# Altium footprint library LM2596SX-ADJ.PcbLib: 1 footprints
Each footprint in its own frame and in the unit in brackets; x right, y up, seen from the top. Pads: shape width x height; smd on the part's side, far side on the other; paste and mask are expansions set on the pad; w line width, h text height; cw(c..) or ccw(c..) is an arc to the next point about the centre after c.
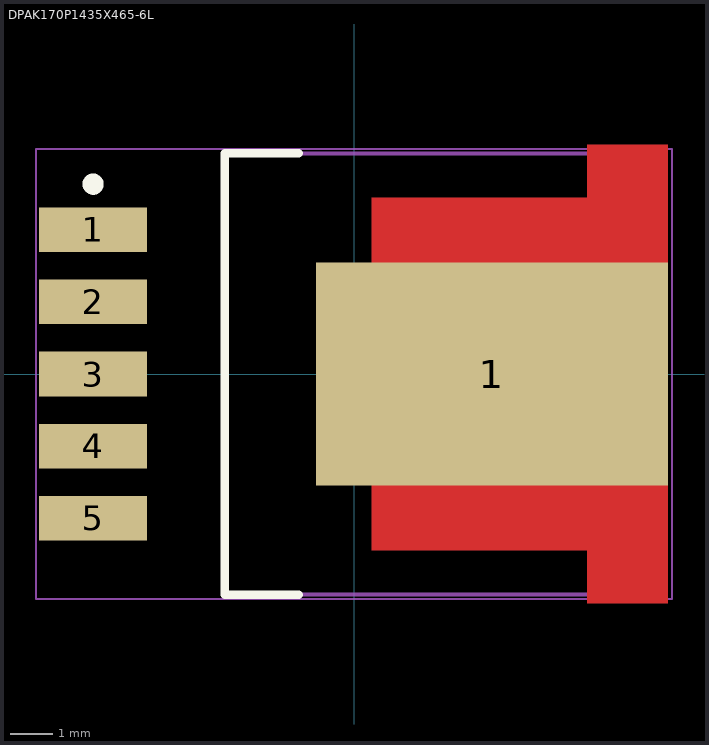
[diagram p0: the footprint, top view; thin cyan lines are the x and y axes]

## DPAK170P1435X465-6L [mm] "D2-PAK, 6-Pads, Body 7,55x8,56mm (max), IPC High Density"
height 4.65
pads (6):
  rect 2.55x1.05 smd: 1(-6.15,3.4) 2(-6.15,1.7) 3(-6.15,0) 4(-6.15,-1.7) 5(-6.15,-3.4)
  rect 8.3x5.25 smd: 1(3.25,0)
Top Layer:
  rectangle: 0.41,-4.165 7.4,4.165
  rectangle: 5.49,-5.405 7.4,5.405
Top Overlay:
  circle w0.25: c-6.15,4.475 r0.125
  lines w0.2: -1.3,-5.2 -3.05,-5.2 -3.05,5.2 -1.3,5.2
Mechanical 13:
  lines w0.1: -3.05,-5.2 -3.05,5.2 5.84,5.2 5.84,-5.2 -3.05,-5.2
Mechanical 15:
  lines w0.05: -7.5,-5.3 -7.5,5.3 7.5,5.3 7.5,-5.3 -7.5,-5.3
  lines w0.1: -0.5,0 0.5,0 ; 0,-0.5 0,0.5
3D body "DPAK170P1435X465-6L.step": height 4.65, standoff 0, extent -6.825,-5.2 7.525,5.2